# Altium footprint library Footprints.PcbLib: 146 footprints (part 6 of 10)
Each footprint in its own frame and in the unit in brackets; x right, y up, seen from the top. Pads: shape width x height; smd on the part's side, far side on the other; paste and mask are expansions set on the pad; w line width, h text height; cw(c..) or ccw(c..) is an arc to the next point about the centre after c.
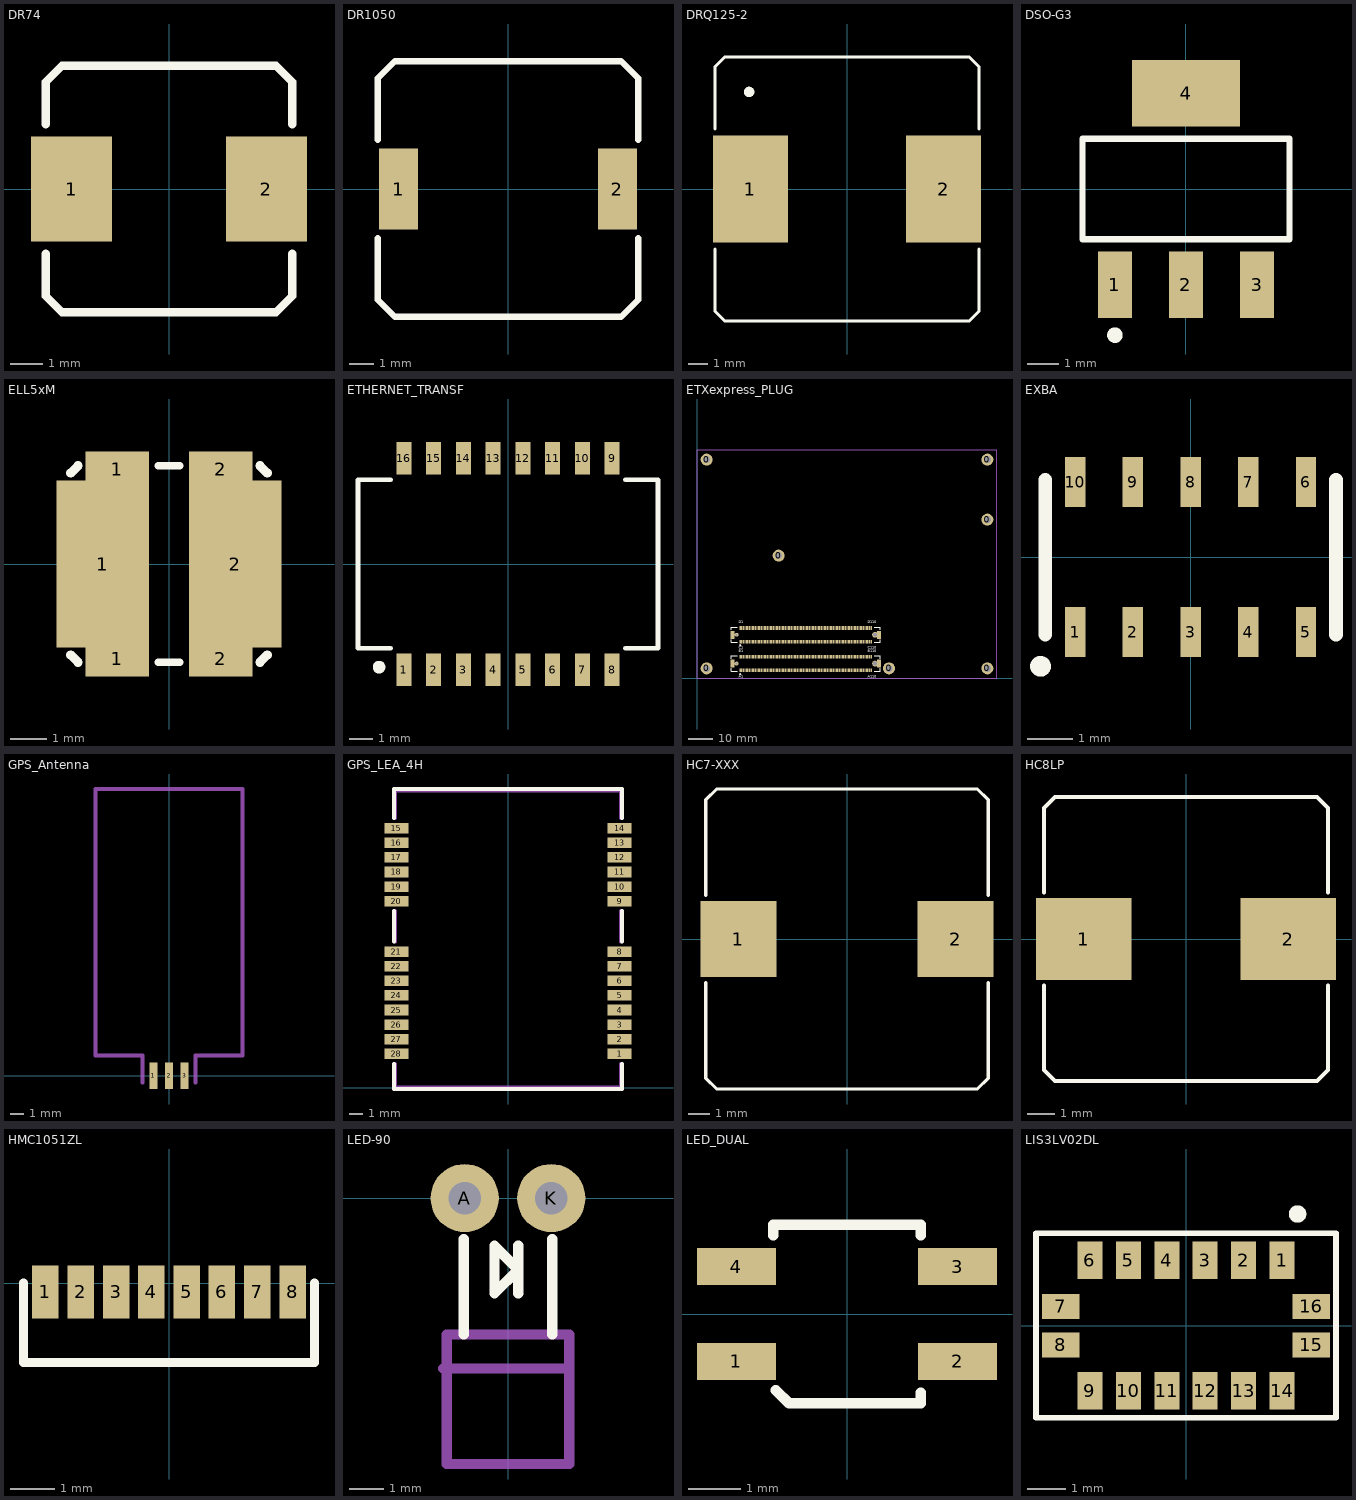
[diagram p5: the footprints below, top view; thin cyan lines are the x and y axes]

## DR74 [mm] "Coil footprint"
height 4.35
pads (2):
  rect 2.5x3.25 smd: 1(-3,0) 2(3,0)
Top Overlay:
  lines w0.254: -3.8,-2 -3.8,-3.3 -3.3,-3.8 3.3,-3.8 3.8,-3.3 3.8,-2 ; -3.8,2 -3.8,3.3 -3.3,3.8 3.3,3.8 3.8,3.3 3.8,2

## DR1050 [mm] "Coil footprint"
height 5
pads (2):
  rect 1.6x3.3 smd: 1(-4.45,0) 2(4.45,0)
Top Overlay:
  lines w0.254: -5.3,-2 -5.3,-4.5 -4.6,-5.2 4.6,-5.2 5.3,-4.5 5.3,-2 ; -5.3,2 -5.3,4.5 -4.6,5.2 4.6,5.2 5.3,4.5 5.3,2

## DRQ125-2 [mm] "Coil footprint"
pads (2):
  rect 3.85x5.5 smd: 1(-4.975,0) 2(4.975,0)
Top Overlay:
  circle w0.254: c-5.041,5 r0.141
  lines w0.15: -6.8,-3.1 -6.8,-6.3 -6.3,-6.8 6.3,-6.8 6.8,-6.3 6.8,-3.1 ; -6.8,3.1 -6.8,6.3 -6.3,6.8 6.3,6.8 6.8,6.3 6.8,3.1

## DSO-G3 [mm] "SOT-223/SC-73; 4 Leads; Body 6.7 x 7.3 mm, inc. leads (LxW max)"
height 1.8
pads (4):
  rect 1.1x2.15 smd: 1(-2.3,-3.1) 2(0,-3.1) 3(2.3,-3.1)
  rect 3.5x2.15 smd: 4(0,3.1)
Top Overlay:
  circle w0.25: c-2.3,-4.725 r0.125
  lines w0.2: -3.35,-1.625 -3.35,1.625 3.35,1.625 3.35,-1.625 -3.35,-1.625

## ELL5xM [mm] "Coil footprint"
pads (6):
  rect 2.55x4.6 smd: 1(-1.825,0) 2(1.825,0)
  rect 1.75x1 smd: 1(-1.425,-2.6) 1(-1.425,2.6) 2(1.425,-2.6) 2(1.425,2.6)
Top Overlay:
  lines w0.2: -0.3,-2.7 0.3,-2.7 ; -0.3,2.7 0.3,2.7
  lines w0.254: -2.7,-2.5 -2.5,-2.7 ; -2.7,2.5 -2.5,2.7 ; 2.5,-2.7 2.7,-2.5 ; 2.5,2.7 2.7,2.5

## ETHERNET_TRANSF [mil] "10/100 Ethernet Transformer POE"
height 275.59
pads (16):
  rect 25x55 smd: 1(-175,-177.5) 2(-125,-177.5) 3(-75,-177.5) 4(-25,-177.5) 5(25,-177.5) 6(75,-177.5) 7(125,-177.5) 8(175,-177.5) 9(175,177.5) 10(125,177.5) 11(75,177.5) 12(25,177.5) 13(-25,177.5) 14(-75,177.5) 15(-125,177.5) 16(-175,177.5)
Top Overlay:
  circle w10: c-216.54,-173.23 r5.57
  lines w7.87: -196.85,-141.73 -251.97,-141.73 -251.97,141.73 -196.85,141.73 ; 196.85,-141.73 251.97,-141.73 251.97,141.73 196.85,141.73

## ETXexpress_PLUG [mm] "ETXexpress Plug connector - 6H type 8-1318491-6"
pads (455):
  round 5 hole 2.8: 0(4,4) 0(4,91) 0(34,51) 0(80,4) 0(121,4) 0(121,66) 0(121,91)
  rect 1.65x3.3 smd: 0(14.775,6) 0(14.775,18) 0(75.925,6) 0(75.925,18)
  round 1.6 hole 0.875: 0(16.5,6) 0(16.5,18)
  round 2.4 hole 1.575: 0(74.2,6) 0(74.2,18)
  rect 0.45x1.5 smd: A1(18.025,3.15) A110(72.675,3.15) B1(18.025,8.85) B110(72.675,8.85) C1(18.025,15.15) C110(72.675,15.15) D1(18.025,20.85) D110(72.675,20.85)
  rect 0.3x1.5 smd: A2(18.6,3.15) A3(19.1,3.15) A4(19.6,3.15) A5(20.1,3.15) A6(20.6,3.15) A7(21.1,3.15) A8(21.6,3.15) A9(22.1,3.15) A10(22.6,3.15) A11(23.1,3.15) A12(23.6,3.15) A13(24.1,3.15) A14(24.6,3.15) A15(25.1,3.15) A16(25.6,3.15) A17(26.1,3.15) A18(26.6,3.15) A19(27.1,3.15) A20(27.6,3.15) A21(28.1,3.15) A22(28.6,3.15) A23(29.1,3.15) A24(29.6,3.15) A25(30.1,3.15) A26(30.6,3.15) A27(31.1,3.15) A28(31.6,3.15) A29(32.1,3.15) A30(32.6,3.15) A31(33.1,3.15) A32(33.6,3.15) A33(34.1,3.15) A34(34.6,3.15) A35(35.1,3.15) A36(35.6,3.15) A37(36.1,3.15) A38(36.6,3.15) A39(37.1,3.15) A40(37.6,3.15) A41(38.1,3.15) A42(38.6,3.15) A43(39.1,3.15) A44(39.6,3.15) A45(40.1,3.15) A46(40.6,3.15) A47(41.1,3.15) A48(41.6,3.15) A49(42.1,3.15) A50(42.6,3.15) A51(43.1,3.15) A52(43.6,3.15) A53(44.1,3.15) A54(44.6,3.15) A55(45.1,3.15) A56(45.6,3.15) A57(46.1,3.15) A58(46.6,3.15) A59(47.1,3.15) A60(47.6,3.15) A61(48.1,3.15) A62(48.6,3.15) A63(49.1,3.15) A64(49.6,3.15) A65(50.1,3.15) A66(50.6,3.15) A67(51.1,3.15) A68(51.6,3.15) A69(52.1,3.15) A70(52.6,3.15) A71(53.1,3.15) A72(53.6,3.15) A73(54.1,3.15) A74(54.6,3.15) A75(55.1,3.15) A76(55.6,3.15) A77(56.1,3.15) A78(56.6,3.15) A79(57.1,3.15) A80(57.6,3.15) A81(58.1,3.15) A82(58.6,3.15) A83(59.1,3.15) A84(59.6,3.15) A85(60.1,3.15) A86(60.6,3.15) A87(61.1,3.15) A88(61.6,3.15) A89(62.1,3.15) A90(62.6,3.15) A91(63.1,3.15) A92(63.6,3.15) A93(64.1,3.15) A94(64.6,3.15) A95(65.1,3.15) A96(65.6,3.15) A97(66.1,3.15) A98(66.6,3.15) A99(67.1,3.15) A100(67.6,3.15) A101(68.1,3.15) A102(68.6,3.15) A103(69.1,3.15) A104(69.6,3.15) A105(70.1,3.15) A106(70.6,3.15) A107(71.1,3.15) A108(71.6,3.15) A109(72.1,3.15) B2(18.6,8.85) B3(19.1,8.85) B4(19.6,8.85) B5(20.1,8.85) B6(20.6,8.85) B7(21.1,8.85) B8(21.6,8.85) B9(22.1,8.85) B10(22.6,8.85) B11(23.1,8.85) B12(23.6,8.85) B13(24.1,8.85) B14(24.6,8.85) B15(25.1,8.85) B16(25.6,8.85) B17(26.1,8.85) B18(26.6,8.85) B19(27.1,8.85) B20(27.6,8.85) B21(28.1,8.85) B22(28.6,8.85) B23(29.1,8.85) B24(29.6,8.85) B25(30.1,8.85) B26(30.6,8.85) B27(31.1,8.85) B28(31.6,8.85) B29(32.1,8.85) B30(32.6,8.85) B31(33.1,8.85) B32(33.6,8.85) B33(34.1,8.85) B34(34.6,8.85) B35(35.1,8.85) B36(35.6,8.85) B37(36.1,8.85) B38(36.6,8.85) B39(37.1,8.85) B40(37.6,8.85) B41(38.1,8.85) B42(38.6,8.85) B43(39.1,8.85) B44(39.6,8.85) B45(40.1,8.85) B46(40.6,8.85) B47(41.1,8.85) B48(41.6,8.85) B49(42.1,8.85) B50(42.6,8.85) B51(43.1,8.85) B52(43.6,8.85) B53(44.1,8.85) B54(44.6,8.85) B55(45.1,8.85) B56(45.6,8.85) B57(46.1,8.85) B58(46.6,8.85) B59(47.1,8.85) B60(47.6,8.85) B61(48.1,8.85) B62(48.6,8.85) B63(49.1,8.85) B64(49.6,8.85) B65(50.1,8.85) B66(50.6,8.85) B67(51.1,8.85) B68(51.6,8.85) B69(52.1,8.85) B70(52.6,8.85) B71(53.1,8.85) B72(53.6,8.85) B73(54.1,8.85) B74(54.6,8.85) B75(55.1,8.85) B76(55.6,8.85) B77(56.1,8.85) B78(56.6,8.85) B79(57.1,8.85) B80(57.6,8.85) B81(58.1,8.85) B82(58.6,8.85) B83(59.1,8.85) B84(59.6,8.85) B85(60.1,8.85) B86(60.6,8.85) B87(61.1,8.85) B88(61.6,8.85) B89(62.1,8.85) B90(62.6,8.85) B91(63.1,8.85) B92(63.6,8.85) B93(64.1,8.85) B94(64.6,8.85) B95(65.1,8.85) B96(65.6,8.85) B97(66.1,8.85) B98(66.6,8.85) B99(67.1,8.85) B100(67.6,8.85) B101(68.1,8.85) B102(68.6,8.85) B103(69.1,8.85) B104(69.6,8.85) B105(70.1,8.85) B106(70.6,8.85) B107(71.1,8.85) B108(71.6,8.85) B109(72.1,8.85) C2(18.6,15.15) C3(19.1,15.15) C4(19.6,15.15) C5(20.1,15.15) C6(20.6,15.15) C7(21.1,15.15) C8(21.6,15.15) C9(22.1,15.15) C10(22.6,15.15) C11(23.1,15.15) C12(23.6,15.15) C13(24.1,15.15) C14(24.6,15.15) C15(25.1,15.15) C16(25.6,15.15) C17(26.1,15.15) C18(26.6,15.15) C19(27.1,15.15) C20(27.6,15.15) C21(28.1,15.15) C22(28.6,15.15) C23(29.1,15.15) C24(29.6,15.15) C25(30.1,15.15) C26(30.6,15.15) C27(31.1,15.15) C28(31.6,15.15) C29(32.1,15.15) C30(32.6,15.15) C31(33.1,15.15) C32(33.6,15.15) C33(34.1,15.15) C34(34.6,15.15) C35(35.1,15.15) C36(35.6,15.15) C37(36.1,15.15) C38(36.6,15.15) C39(37.1,15.15) C40(37.6,15.15) C41(38.1,15.15) C42(38.6,15.15) C43(39.1,15.15) C44(39.6,15.15) C45(40.1,15.15) C46(40.6,15.15) C47(41.1,15.15) C48(41.6,15.15) C49(42.1,15.15) C50(42.6,15.15) C51(43.1,15.15) C52(43.6,15.15) C53(44.1,15.15) C54(44.6,15.15) C55(45.1,15.15) C56(45.6,15.15) C57(46.1,15.15) C58(46.6,15.15) C59(47.1,15.15) C60(47.6,15.15) C61(48.1,15.15) C62(48.6,15.15) C63(49.1,15.15) C64(49.6,15.15) C65(50.1,15.15) C66(50.6,15.15) C67(51.1,15.15) C68(51.6,15.15) C69(52.1,15.15) C70(52.6,15.15) C71(53.1,15.15) C72(53.6,15.15) C73(54.1,15.15) C74(54.6,15.15) C75(55.1,15.15) C76(55.6,15.15) C77(56.1,15.15) C78(56.6,15.15) C79(57.1,15.15) C80(57.6,15.15) C81(58.1,15.15) C82(58.6,15.15) C83(59.1,15.15) C84(59.6,15.15) C85(60.1,15.15) C86(60.6,15.15) C87(61.1,15.15) C88(61.6,15.15) C89(62.1,15.15) C90(62.6,15.15) C91(63.1,15.15) C92(63.6,15.15) C93(64.1,15.15) C94(64.6,15.15) C95(65.1,15.15) C96(65.6,15.15) C97(66.1,15.15) C98(66.6,15.15) C99(67.1,15.15) C100(67.6,15.15) C101(68.1,15.15) C102(68.6,15.15) C103(69.1,15.15) C104(69.6,15.15) C105(70.1,15.15) C106(70.6,15.15) C107(71.1,15.15) C108(71.6,15.15) C109(72.1,15.15) D2(18.6,20.85) D3(19.1,20.85) D4(19.6,20.85) D5(20.1,20.85) D6(20.6,20.85) D7(21.1,20.85) D8(21.6,20.85) D9(22.1,20.85) D10(22.6,20.85) D11(23.1,20.85) D12(23.6,20.85) D13(24.1,20.85) D14(24.6,20.85) D15(25.1,20.85) D16(25.6,20.85) D17(26.1,20.85) D18(26.6,20.85) D19(27.1,20.85) D20(27.6,20.85) D21(28.1,20.85) D22(28.6,20.85) D23(29.1,20.85) D24(29.6,20.85) D25(30.1,20.85) D26(30.6,20.85) D27(31.1,20.85) D28(31.6,20.85) D29(32.1,20.85) D30(32.6,20.85) D31(33.1,20.85) D32(33.6,20.85) D33(34.1,20.85) D34(34.6,20.85) D35(35.1,20.85) D36(35.6,20.85) D37(36.1,20.85) D38(36.6,20.85) D39(37.1,20.85) D40(37.6,20.85) D41(38.1,20.85) D42(38.6,20.85) D43(39.1,20.85) D44(39.6,20.85) D45(40.1,20.85) D46(40.6,20.85) D47(41.1,20.85) D48(41.6,20.85) D49(42.1,20.85) D50(42.6,20.85) D51(43.1,20.85) D52(43.6,20.85) D53(44.1,20.85) D54(44.6,20.85) D55(45.1,20.85) D56(45.6,20.85) D57(46.1,20.85) D58(46.6,20.85) D59(47.1,20.85) D60(47.6,20.85) D61(48.1,20.85) D62(48.6,20.85) D63(49.1,20.85) D64(49.6,20.85) D65(50.1,20.85) D66(50.6,20.85) D67(51.1,20.85) D68(51.6,20.85) D69(52.1,20.85) D70(52.6,20.85) D71(53.1,20.85) D72(53.6,20.85) D73(54.1,20.85) D74(54.6,20.85) D75(55.1,20.85) D76(55.6,20.85) D77(56.1,20.85) D78(56.6,20.85) D79(57.1,20.85) D80(57.6,20.85) D81(58.1,20.85) D82(58.6,20.85) D83(59.1,20.85) D84(59.6,20.85) D85(60.1,20.85) D86(60.6,20.85) D87(61.1,20.85) D88(61.6,20.85) D89(62.1,20.85) D90(62.6,20.85) D91(63.1,20.85) D92(63.6,20.85) D93(64.1,20.85) D94(64.6,20.85) D95(65.1,20.85) D96(65.6,20.85) D97(66.1,20.85) D98(66.6,20.85) D99(67.1,20.85) D100(67.6,20.85) D101(68.1,20.85) D102(68.6,20.85) D103(69.1,20.85) D104(69.6,20.85) D105(70.1,20.85) D106(70.6,20.85) D107(71.1,20.85) D108(71.6,20.85) D109(72.1,20.85)
Top Overlay:
  lines w0.15: 14.35,4 14.35,2.8 16.85,2.8 ; 14.35,8 14.35,9.2 16.85,9.2 ; 14.35,16 14.35,14.8 16.85,14.8 ; 14.35,20 14.35,21.2 16.85,21.2 ; 73.85,2.8 76.35,2.8 76.35,4 ; 73.85,9.2 76.35,9.2 76.35,8 ; 73.85,14.8 76.35,14.8 76.35,16 ; 73.85,21.2 76.35,21.2 76.35,20 ; 17.85,1.6 18.05,2 18.25,1.6 17.85,1.6 ; 17.85,13.6 18.25,13.6 18.05,14 17.85,13.6
  text "D1" at 17.45,22.8 h1
  text "D110" at 71.15,22.8 h1
  text "C110" at 71.15,12.2 h1
  text "C1" at 17.45,12.2 h1
  text "A1" at 17.45,0.2 h1
  text "A110" at 71.15,0.2 h1
  text "B110" at 71.15,10.8 h1
  text "B1" at 17.45,10.8 h1
Mechanical 1:
  lines w0.3: 0,0 0,95 125,95 125,0 0,0

## EXBA [mm] "Bus resistor"
height 1
pads (10):
  rect 0.45x1.1 smd: 1(-2.54,-1.65) 2(-1.27,-1.65) 3(0,-1.65) 4(1.27,-1.65) 5(2.54,-1.65) 6(2.54,1.65) 7(1.27,1.65) 8(0,1.65) 9(-1.27,1.65) 10(-2.54,1.65)
Top Overlay:
  circle w0.254: c-3.3,-2.4 r0.1
  lines w0.3: -3.2,-1.7 -3.2,1.7 ; 3.2,-1.7 3.2,1.7

## GPS_Antenna [mm] "GPS Helical Antenna"
height 11
pads (3):
  rect 0.6x2 smd: 1(-1.17,0) 2(0,0) 3(1.17,0)
Mechanical 1:
  lines w0.3: -2,-0.5 -2,1.5 -5.5,1.5 -5.5,21.5 5.5,21.5 5.5,1.5 2,1.5 2,-0.5

## GPS_LEA_4H [mm] "GPS Macrocomponent"
height 3
pads (28):
  rect 1.8x0.8 smd: 1(8.4,2.55) 2(8.4,3.65) 3(8.4,4.75) 4(8.4,5.85) 5(8.4,6.95) 6(8.4,8.05) 7(8.4,9.15) 8(8.4,10.25) 9(8.4,14.05) 10(8.4,15.15) 11(8.4,16.25) 12(8.4,17.35) 13(8.4,18.45) 14(8.4,19.55) 15(-8.4,19.55) 16(-8.4,18.45) 17(-8.4,17.35) 18(-8.4,16.25) 19(-8.4,15.15) 20(-8.4,14.05) 21(-8.4,10.25) 22(-8.4,9.15) 23(-8.4,8.05) 24(-8.4,6.95) 25(-8.4,5.85) 26(-8.4,4.75) 27(-8.4,3.65) 28(-8.4,2.55)
Top Overlay:
  lines w0.3: -8.6,1.8 -8.6,-0.1 8.6,-0.1 8.6,1.8 ; -8.6,11 -8.6,13.3 ; -8.6,20.3 -8.6,22.5 8.6,22.5 8.6,20.3 ; 8.6,11 8.6,13.3
Mechanical 1:
  lines w0.3: -8.5,1.8 -8.5,0 8.5,0 8.5,1.8 ; -8.5,11 -8.5,13.3 ; -8.5,20.3 -8.5,22.4 8.5,22.4 8.5,20.3 ; 8.5,11 8.5,13.3

## HC7-XXX [mm] "Coil footprint"
pads (2):
  rect 3.5x3.5 smd: 1(-5,0) 2(5,0)
Top Overlay:
  lines w0.15: -6.5,-2 -6.5,-6.4 -6,-6.9 6,-6.9 6.5,-6.4 6.5,-2 ; -6.5,2 -6.5,6.4 -6,6.9 6,6.9 6.5,6.4 6.5,2

## HC8LP [mm] "Coil footprint"
pads (2):
  rect 3.5x3 smd: 1(-3.75,0) 2(3.75,0)
Top Overlay:
  lines w0.15: -5.2,-1.7 -5.2,-4.8 -4.8,-5.2 4.8,-5.2 5.2,-4.8 5.2,-1.7 ; -5.2,1.7 -5.2,4.8 -4.8,5.2 4.8,5.2 5.2,4.8 5.2,1.7

## HMC1051ZL [mm] "Vertical Magnetic Sensor"
height 2
pads (8):
  rect 0.6x1.2 smd: 1(-2.8,-0.2) 2(-2,-0.2) 3(-1.2,-0.2) 4(-0.4,-0.2) 5(0.4,-0.2) 6(1.2,-0.2) 7(2,-0.2) 8(2.8,-0.2)
Top Overlay:
  lines w0.2: -3.3,0 -3.3,-1.8 3.3,-1.8 3.3,0

## LED-90 [mm] "3mm LED, 90 degree, 2.54 mm pitch"
height 5
pads (2):
  round 2 hole 0.95: A(-1.27,0) K(1.27,0)
Top Overlay:
  lines w0.3: -1.3,-4 -1.3,-1.2 ; 0.3,-2.8 0.3,-1.4 ; 1.3,-4 1.3,-1.2 ; -0.4,-2.8 -0.4,-1.4 0.3,-2.1 -0.4,-2.8
Mechanical 1:
  lines w0.3: -1.9,-5 1.8,-5 ; -1.8,-7.8 1.8,-7.8 1.8,-4 -1.8,-4 -1.8,-7.8

## LED_DUAL [mm] "Dual-Color SMD LED"
height 1.5
pads (4):
  rect 1.5x0.7 smd: 1(-2.1,-0.9) 2(2.1,-0.9) 3(2.1,0.9) 4(-2.1,0.9)
Top Overlay:
  lines w0.2: -1.4,1.5 -1.4,1.7 1.4,1.7 1.4,1.5 ; -1.35,-1.45 -1.1,-1.7 1.4,-1.7 1.4,-1.5

## LIS3LV02DL [mm] "3D Accelerometer"
pads (16):
  rect 0.65x0.975 smd: 1(2.5,1.7) 2(1.5,1.7) 3(0.5,1.7) 4(-0.5,1.7) 5(-1.5,1.7) 6(-2.5,1.7) 9(-2.5,-1.7) 10(-1.5,-1.7) 11(-0.5,-1.7) 12(0.5,-1.7) 13(1.5,-1.7) 14(2.5,-1.7)
  rect 0.975x0.65 smd: 7(-3.25,0.5) 8(-3.25,-0.5) 15(3.25,-0.5) 16(3.25,0.5)
Top Overlay:
  circle w0.254: c2.9,2.9 r0.1
  lines w0.15: -3.9,-2.4 -3.9,2.4 3.9,2.4 3.9,-2.4 -3.9,-2.4